# Altium schematic symbol library Fiducials.SchLib: 2 symbols
Pins are listed as number, name and electrical type; pins without a type are passive.

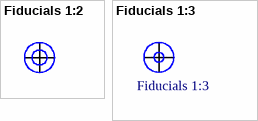
[diagram p0: symbols Fiducials 1:2 to Fiducials 1:3]

## Fiducials 1:2
designator FID?  (value not drawn)  (no BOM)
footprint Fiducials 1:2

## Fiducials 1:3
designator FID?  (no BOM)
footprint Fiducials 1:3